# EAGLE library part CH376 (library CH376S)
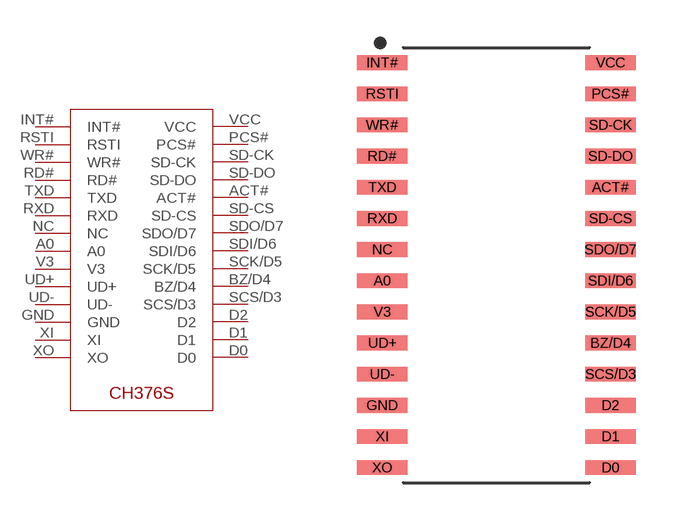
[diagram p0: symbol with the pads of CH376S-SOIC; footprint CH376S-SOIC]

Designator prefix -

## CH376  [CH376S-SOIC]
A0  A0
ACT#  ACT#
BZ/D4  BZ/D4
D0  D0
D1  D1
D2  D2
GND  GND
INT#  INT#
NC  NC  nc
PCS#  PCS#
RD#  RD#
RSTI  RSTI
RXD  RXD
SCK/D5  SCK/D5
SCS/D3  SCS/D3
SD-CK  SD-CK
SD-CS  SD-CS
SD-DO  SD-DO
SDI/D6  SDI/D6
SDO/D7  SDO/D7
TXD  TXD
UD+  UD+
UD-  UD-
V3  V3
VCC  VCC  pwr
WR#  WR#
XI  XI
XO  XO

## Footprint CH376S-SOIC (pad centres in mm)
28-SOIC, 1.27 mm pitch, 10.32 mm span, 12.80 X 7.50 X 2.65 mm body 28-pin SOIC package with 1.27 mm pitch, 10.32 mm span with body size 12.80 X 7.50 X 2.65 mm
smd 2.052 x 0.602: A0 -4.654,-0.635; ACT# 4.654,3.175; BZ/D4 4.654,-3.175; D0 4.654,-8.255; D1 4.654,-6.985; D2 4.654,-5.715; GND -4.654,-5.715; INT# -4.654,8.255; NC -4.654,0.635; PCS# 4.654,6.985; RD# -4.654,4.445; RSTI -4.654,6.985; RXD -4.654,1.905; SCK/D5 4.654,-1.905; SCS/D3 4.654,-4.445; SD-CK 4.654,5.715; SD-CS 4.654,1.905; SD-DO 4.654,4.445; SDI/D6 4.654,-0.635; SDO/D7 4.654,0.635; TXD -4.654,3.175; UD+ -4.654,-3.175; UD- -4.654,-4.445; V3 -4.654,-1.905; VCC 4.654,8.255; WR# -4.654,5.715; XI -4.654,-6.985; XO -4.654,-8.255